# EAGLE library part SODIMM (library Bjorn4)
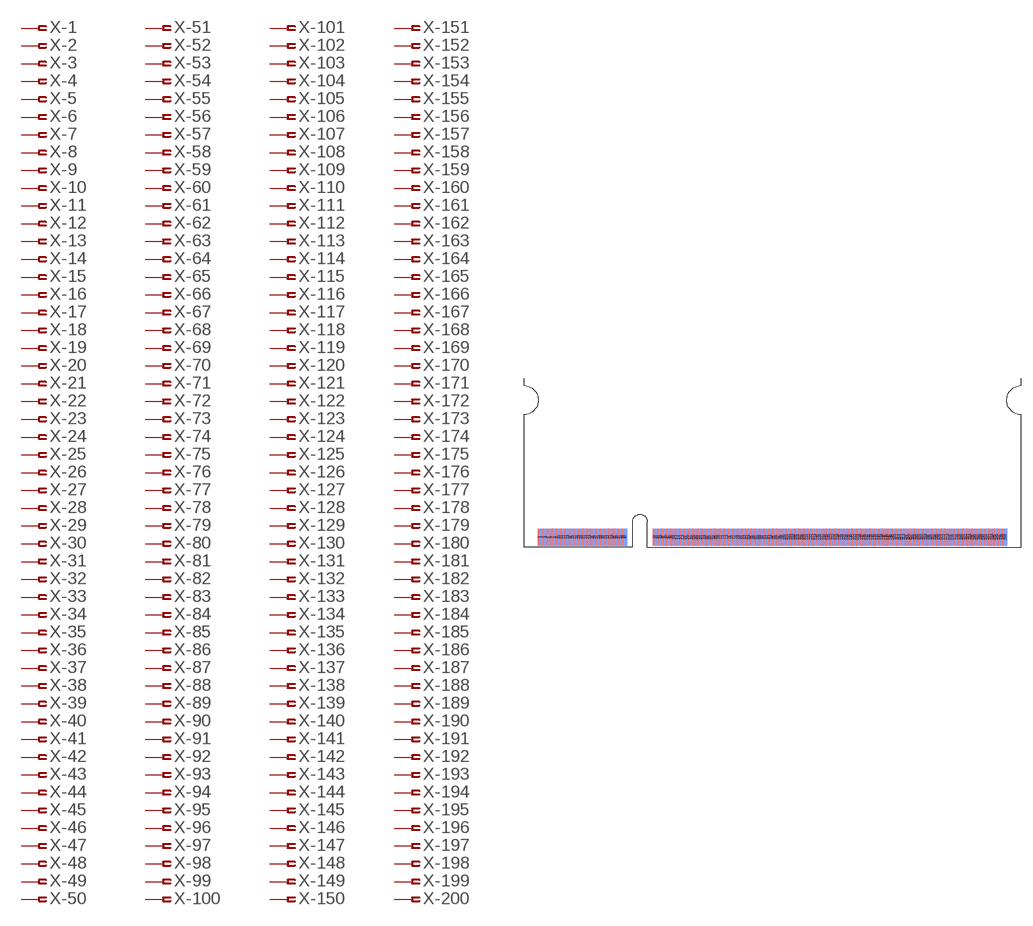
[diagram p5: symbol with the pads of SO-DIMM; footprint SO-DIMM]

Designator prefix X; gates -1=PIN_SD -2=PIN_SD -3=PIN_SD -4=PIN_SD -5=PIN_SD -6=PIN_SD -7=PIN_SD -8=PIN_SD -9=PIN_SD -10=PIN_SD -11=PIN_SD -12=PIN_SD -13=PIN_SD -14=PIN_SD -15=PIN_SD -16=PIN_SD -17=PIN_SD -18=PIN_SD -19=PIN_SD -20=PIN_SD -21=PIN_SD -22=PIN_SD -23=PIN_SD -24=PIN_SD -25=PIN_SD -26=PIN_SD -27=PIN_SD -28=PIN_SD -29=PIN_SD -30=PIN_SD -31=PIN_SD -32=PIN_SD -33=PIN_SD -34=PIN_SD -35=PIN_SD -36=PIN_SD -37=PIN_SD -38=PIN_SD -39=PIN_SD -40=PIN_SD -41=PIN_SD -42=PIN_SD -43=PIN_SD -44=PIN_SD -45=PIN_SD -46=PIN_SD -47=PIN_SD -48=PIN_SD -49=PIN_SD -50=PIN_SD -51=PIN_SD -52=PIN_SD -53=PIN_SD -54=PIN_SD -55=PIN_SD -56=PIN_SD -57=PIN_SD -58=PIN_SD -59=PIN_SD -60=PIN_SD -61=PIN_SD -62=PIN_SD -63=PIN_SD -64=PIN_SD -65=PIN_SD -66=PIN_SD -67=PIN_SD -68=PIN_SD -69=PIN_SD -70=PIN_SD -71=PIN_SD -72=PIN_SD -73=PIN_SD -74=PIN_SD -75=PIN_SD -76=PIN_SD -77=PIN_SD -78=PIN_SD -79=PIN_SD -80=PIN_SD -81=PIN_SD -82=PIN_SD -83=PIN_SD -84=PIN_SD -85=PIN_SD -86=PIN_SD -87=PIN_SD -88=PIN_SD -89=PIN_SD -90=PIN_SD -91=PIN_SD -92=PIN_SD -93=PIN_SD -94=PIN_SD -95=PIN_SD -96=PIN_SD -97=PIN_SD -98=PIN_SD -99=PIN_SD -100=PIN_SD -101=PIN_SD -102=PIN_SD -103=PIN_SD -104=PIN_SD -105=PIN_SD -106=PIN_SD -107=PIN_SD -108=PIN_SD -109=PIN_SD -110=PIN_SD -111=PIN_SD -112=PIN_SD -113=PIN_SD -114=PIN_SD -115=PIN_SD -116=PIN_SD -117=PIN_SD -118=PIN_SD -119=PIN_SD -120=PIN_SD -121=PIN_SD -122=PIN_SD -123=PIN_SD -124=PIN_SD -125=PIN_SD -126=PIN_SD -127=PIN_SD -128=PIN_SD -129=PIN_SD -130=PIN_SD -131=PIN_SD -132=PIN_SD -133=PIN_SD -134=PIN_SD -135=PIN_SD -136=PIN_SD -137=PIN_SD -138=PIN_SD -139=PIN_SD -140=PIN_SD -141=PIN_SD -142=PIN_SD -143=PIN_SD -144=PIN_SD -145=PIN_SD -146=PIN_SD -147=PIN_SD -148=PIN_SD -149=PIN_SD -150=PIN_SD -151=PIN_SD -152=PIN_SD -153=PIN_SD -154=PIN_SD -155=PIN_SD -156=PIN_SD -157=PIN_SD -158=PIN_SD -159=PIN_SD -160=PIN_SD -161=PIN_SD -162=PIN_SD -163=PIN_SD -164=PIN_SD -165=PIN_SD -166=PIN_SD -167=PIN_SD -168=PIN_SD -169=PIN_SD -170=PIN_SD -171=PIN_SD -172=PIN_SD -173=PIN_SD -174=PIN_SD -175=PIN_SD -176=PIN_SD -177=PIN_SD -178=PIN_SD -179=PIN_SD -180=PIN_SD -181=PIN_SD -182=PIN_SD -183=PIN_SD -184=PIN_SD -185=PIN_SD -186=PIN_SD -187=PIN_SD -188=PIN_SD -189=PIN_SD -190=PIN_SD -191=PIN_SD -192=PIN_SD -193=PIN_SD -194=PIN_SD -195=PIN_SD -196=PIN_SD -197=PIN_SD -198=PIN_SD -199=PIN_SD -200=PIN_SD

## SODIMM  [SO-DIMM]
1  -1:1  pas
2  -2:1  pas
3  -3:1  pas
4  -4:1  pas
5  -5:1  pas
6  -6:1  pas
7  -7:1  pas
8  -8:1  pas
9  -9:1  pas
10  -10:1  pas
11  -11:1  pas
12  -12:1  pas
13  -13:1  pas
14  -14:1  pas
15  -15:1  pas
16  -16:1  pas
17  -17:1  pas
18  -18:1  pas
19  -19:1  pas
20  -20:1  pas
21  -21:1  pas
22  -22:1  pas
23  -23:1  pas
24  -24:1  pas
25  -25:1  pas
26  -26:1  pas
27  -27:1  pas
28  -28:1  pas
29  -29:1  pas
30  -30:1  pas
31  -31:1  pas
32  -32:1  pas
33  -33:1  pas
34  -34:1  pas
35  -35:1  pas
36  -36:1  pas
37  -37:1  pas
38  -38:1  pas
39  -39:1  pas
40  -40:1  pas
41  -41:1  pas
42  -42:1  pas
43  -43:1  pas
44  -44:1  pas
45  -45:1  pas
46  -46:1  pas
47  -47:1  pas
48  -48:1  pas
49  -49:1  pas
50  -50:1  pas
51  -51:1  pas
52  -52:1  pas
53  -53:1  pas
54  -54:1  pas
55  -55:1  pas
56  -56:1  pas
57  -57:1  pas
58  -58:1  pas
59  -59:1  pas
60  -60:1  pas
61  -61:1  pas
62  -62:1  pas
63  -63:1  pas
64  -64:1  pas
65  -65:1  pas
66  -66:1  pas
67  -67:1  pas
68  -68:1  pas
69  -69:1  pas
70  -70:1  pas
71  -71:1  pas
72  -72:1  pas
73  -73:1  pas
74  -74:1  pas
75  -75:1  pas
76  -76:1  pas
77  -77:1  pas
78  -78:1  pas
79  -79:1  pas
80  -80:1  pas
81  -81:1  pas
82  -82:1  pas
83  -83:1  pas
84  -84:1  pas
85  -85:1  pas
86  -86:1  pas
87  -87:1  pas
88  -88:1  pas
89  -89:1  pas
90  -90:1  pas
91  -91:1  pas
92  -92:1  pas
93  -93:1  pas
94  -94:1  pas
95  -95:1  pas
96  -96:1  pas
97  -97:1  pas
98  -98:1  pas
99  -99:1  pas
100  -100:1  pas
101  -101:1  pas
102  -102:1  pas
103  -103:1  pas
104  -104:1  pas
105  -105:1  pas
106  -106:1  pas
107  -107:1  pas
108  -108:1  pas
109  -109:1  pas
110  -110:1  pas
111  -111:1  pas
112  -112:1  pas
113  -113:1  pas
114  -114:1  pas
115  -115:1  pas
116  -116:1  pas
117  -117:1  pas
118  -118:1  pas
119  -119:1  pas
120  -120:1  pas
121  -121:1  pas
122  -122:1  pas
123  -123:1  pas
124  -124:1  pas
125  -125:1  pas
126  -126:1  pas
127  -127:1  pas
128  -128:1  pas
129  -129:1  pas
130  -130:1  pas
131  -131:1  pas
132  -132:1  pas
133  -133:1  pas
134  -134:1  pas
135  -135:1  pas
136  -136:1  pas
137  -137:1  pas
138  -138:1  pas
139  -139:1  pas
140  -140:1  pas
141  -141:1  pas
142  -142:1  pas
143  -143:1  pas
144  -144:1  pas
145  -145:1  pas
146  -146:1  pas
147  -147:1  pas
148  -148:1  pas
149  -149:1  pas
150  -150:1  pas
151  -151:1  pas
152  -152:1  pas
153  -153:1  pas
154  -154:1  pas
155  -155:1  pas
156  -156:1  pas
157  -157:1  pas
158  -158:1  pas
159  -159:1  pas
160  -160:1  pas
161  -161:1  pas
162  -162:1  pas
163  -163:1  pas
164  -164:1  pas
165  -165:1  pas
166  -166:1  pas
167  -167:1  pas
168  -168:1  pas
169  -169:1  pas
170  -170:1  pas
171  -171:1  pas
172  -172:1  pas
173  -173:1  pas
174  -174:1  pas
175  -175:1  pas
176  -176:1  pas
177  -177:1  pas
178  -178:1  pas
179  -179:1  pas
180  -180:1  pas
181  -181:1  pas
182  -182:1  pas
183  -183:1  pas
184  -184:1  pas
185  -185:1  pas
186  -186:1  pas
187  -187:1  pas
188  -188:1  pas
189  -189:1  pas
190  -190:1  pas
191  -191:1  pas
192  -192:1  pas
193  -193:1  pas
194  -194:1  pas
195  -195:1  pas
196  -196:1  pas
197  -197:1  pas
198  -198:1  pas
199  -199:1  pas
200  -200:1  pas

## Footprint SO-DIMM (pad centres in mm)
smd 0.45 x 2.3: 1 2.15,1.4; 3 2.75,1.4; 5 3.35,1.4; 7 3.95,1.4; 9 4.55,1.4; 11 5.15,1.4; 13 5.75,1.4; 15 6.35,1.4; 17 6.95,1.4; 19 7.55,1.4; 21 8.15,1.4; 23 8.75,1.4; 25 9.35,1.4; 27 9.95,1.4; 29 10.55,1.4; 31 11.15,1.4; 33 11.75,1.4; 35 12.35,1.4; 37 12.95,1.4; 39 13.55,1.4; 41 17.75,1.4; 43 18.35,1.4; 45 18.95,1.4; 47 19.55,1.4; 49 20.15,1.4; 51 20.75,1.4; 53 21.35,1.4; 55 21.95,1.4; 57 22.55,1.4; 59 23.15,1.4; 61 23.75,1.4; 63 24.35,1.4; 65 24.95,1.4; 67 25.55,1.4; 69 26.15,1.4; 71 26.75,1.4; 73 27.35,1.4; 75 27.95,1.4; 77 28.55,1.4; 79 29.15,1.4; 81 29.75,1.4; 83 30.35,1.4; 85 30.95,1.4; 87 31.55,1.4; 89 32.15,1.4; 91 32.75,1.4; 93 33.35,1.4; 95 33.95,1.4; 97 34.55,1.4; 99 35.15,1.4; 101 35.75,1.4; 103 36.35,1.4; 105 36.95,1.4; 107 37.55,1.4; 109 38.15,1.4; 111 38.75,1.4; 113 39.35,1.4; 115 39.95,1.4; 117 40.55,1.4; 119 41.15,1.4; 121 41.75,1.4; 123 42.35,1.4; 125 42.95,1.4; 127 43.55,1.4; 129 44.15,1.4; 131 44.75,1.4; 133 45.35,1.4; 135 45.95,1.4; 137 46.55,1.4; 139 47.15,1.4; 141 47.75,1.4; 143 48.35,1.4; 145 48.95,1.4; 147 49.55,1.4; 149 50.15,1.4; 151 50.75,1.4; 153 51.35,1.4; 155 51.95,1.4; 157 52.55,1.4; 159 53.15,1.4; 161 53.75,1.4; 163 54.35,1.4; 165 54.95,1.4; 167 55.55,1.4; 169 56.15,1.4; 171 56.75,1.4; 173 57.35,1.4; 175 57.95,1.4; 177 58.55,1.4; 179 59.15,1.4; 181 59.75,1.4; 183 60.35,1.4; 185 60.95,1.4; 187 61.55,1.4; 189 62.15,1.4; 191 62.75,1.4; 193 63.35,1.4; 195 63.95,1.4; 197 64.55,1.4; 199 65.15,1.4
smd 0.45 x 2.3 bottom: 2 2.45,1.4; 4 3.05,1.4; 6 3.65,1.4; 8 4.25,1.4; 10 4.85,1.4; 12 5.45,1.4; 14 6.05,1.4; 16 6.65,1.4; 18 7.25,1.4; 20 7.85,1.4; 22 8.45,1.4; 24 9.05,1.4; 26 9.65,1.4; 28 10.25,1.4; 30 10.85,1.4; 32 11.45,1.4; 34 12.05,1.4; 36 12.65,1.4; 38 13.25,1.4; 40 13.85,1.4; 42 18.05,1.4; 44 18.65,1.4; 46 19.25,1.4; 48 19.85,1.4; 50 20.45,1.4; 52 21.05,1.4; 54 21.65,1.4; 56 22.25,1.4; 58 22.85,1.4; 60 23.45,1.4; 62 24.05,1.4; 64 24.65,1.4; 66 25.25,1.4; 68 25.85,1.4; 70 26.45,1.4; 72 27.05,1.4; 74 27.65,1.4; 76 28.25,1.4; 78 28.85,1.4; 80 29.45,1.4; 82 30.05,1.4; 84 30.65,1.4; 86 31.25,1.4; 88 31.85,1.4; 90 32.45,1.4; 92 33.05,1.4; 94 33.65,1.4; 96 34.25,1.4; 98 34.85,1.4; 100 35.45,1.4; 102 36.05,1.4; 104 36.65,1.4; 106 37.25,1.4; 108 37.85,1.4; 110 38.45,1.4; 112 39.05,1.4; 114 39.65,1.4; 116 40.25,1.4; 118 40.85,1.4; 120 41.45,1.4; 122 42.05,1.4; 124 42.65,1.4; 126 43.25,1.4; 128 43.85,1.4; 130 44.45,1.4; 132 45.05,1.4; 134 45.65,1.4; 136 46.25,1.4; 138 46.85,1.4; 140 47.45,1.4; 142 48.05,1.4; 144 48.65,1.4; 146 49.25,1.4; 148 49.85,1.4; 150 50.45,1.4; 152 51.05,1.4; 154 51.65,1.4; 156 52.25,1.4; 158 52.85,1.4; 160 53.45,1.4; 162 54.05,1.4; 164 54.65,1.4; 166 55.25,1.4; 168 55.85,1.4; 170 56.45,1.4; 172 57.05,1.4; 174 57.65,1.4; 176 58.25,1.4; 178 58.85,1.4; 180 59.45,1.4; 182 60.05,1.4; 184 60.65,1.4; 186 61.25,1.4; 188 61.85,1.4; 190 62.45,1.4; 192 63.05,1.4; 194 63.65,1.4; 196 64.25,1.4; 198 64.85,1.4; 200 65.45,1.4